# Altium schematic symbol library REF1933AIDDCR.SchLib: 1 symbol
Pins are listed as number, name and electrical type; pins without a type are passive.

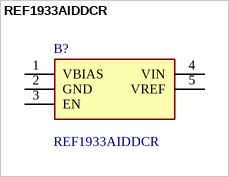
[diagram p0: symbol REF1933AIDDCR]

## REF1933AIDDCR
designator B?
Voltage References Dual Output Vref & Vref/2 Voltage Ref; Manufacturer_Name: Texas Instruments; Geometry.Height: 1.1mm; Manufacturer_Part_Number: REF1933AIDDCR; Mouser Part Number: 595-REF1933AIDDCR; Mouser Price/Stock: https://www.mouser.co.uk/ProductDetail/Texas-Instruments/REF1933AIDDCR?qs=asCBFxFfL1SSAJuHGdYYcw%3D%3D; Arrow Part Number: REF1933AIDDCR; Arrow Price/Stock: https://www.arrow.com/en/products/ref1933aiddcr/texas-instruments?utm_currency=USD&region=nac; Datasheet Link: http://www.mouser.com/ds/2/405/ref1933-464431.pdf
footprint SOT95P280X110-5N
pins: 1 VBIAS, 2 GND, 3 EN, 4 VIN, 5 VREF